# Altium footprint library STM32G4_DRV8301_hardware.PcbLib: 61 footprints (part 3 of 4)
Each footprint in its own frame and in the unit in brackets; x right, y up, seen from the top. Pads: shape width x height; smd on the part's side, far side on the other; paste and mask are expansions set on the pad; w line width, h text height; cw(c..) or ccw(c..) is an arc to the next point about the centre after c.
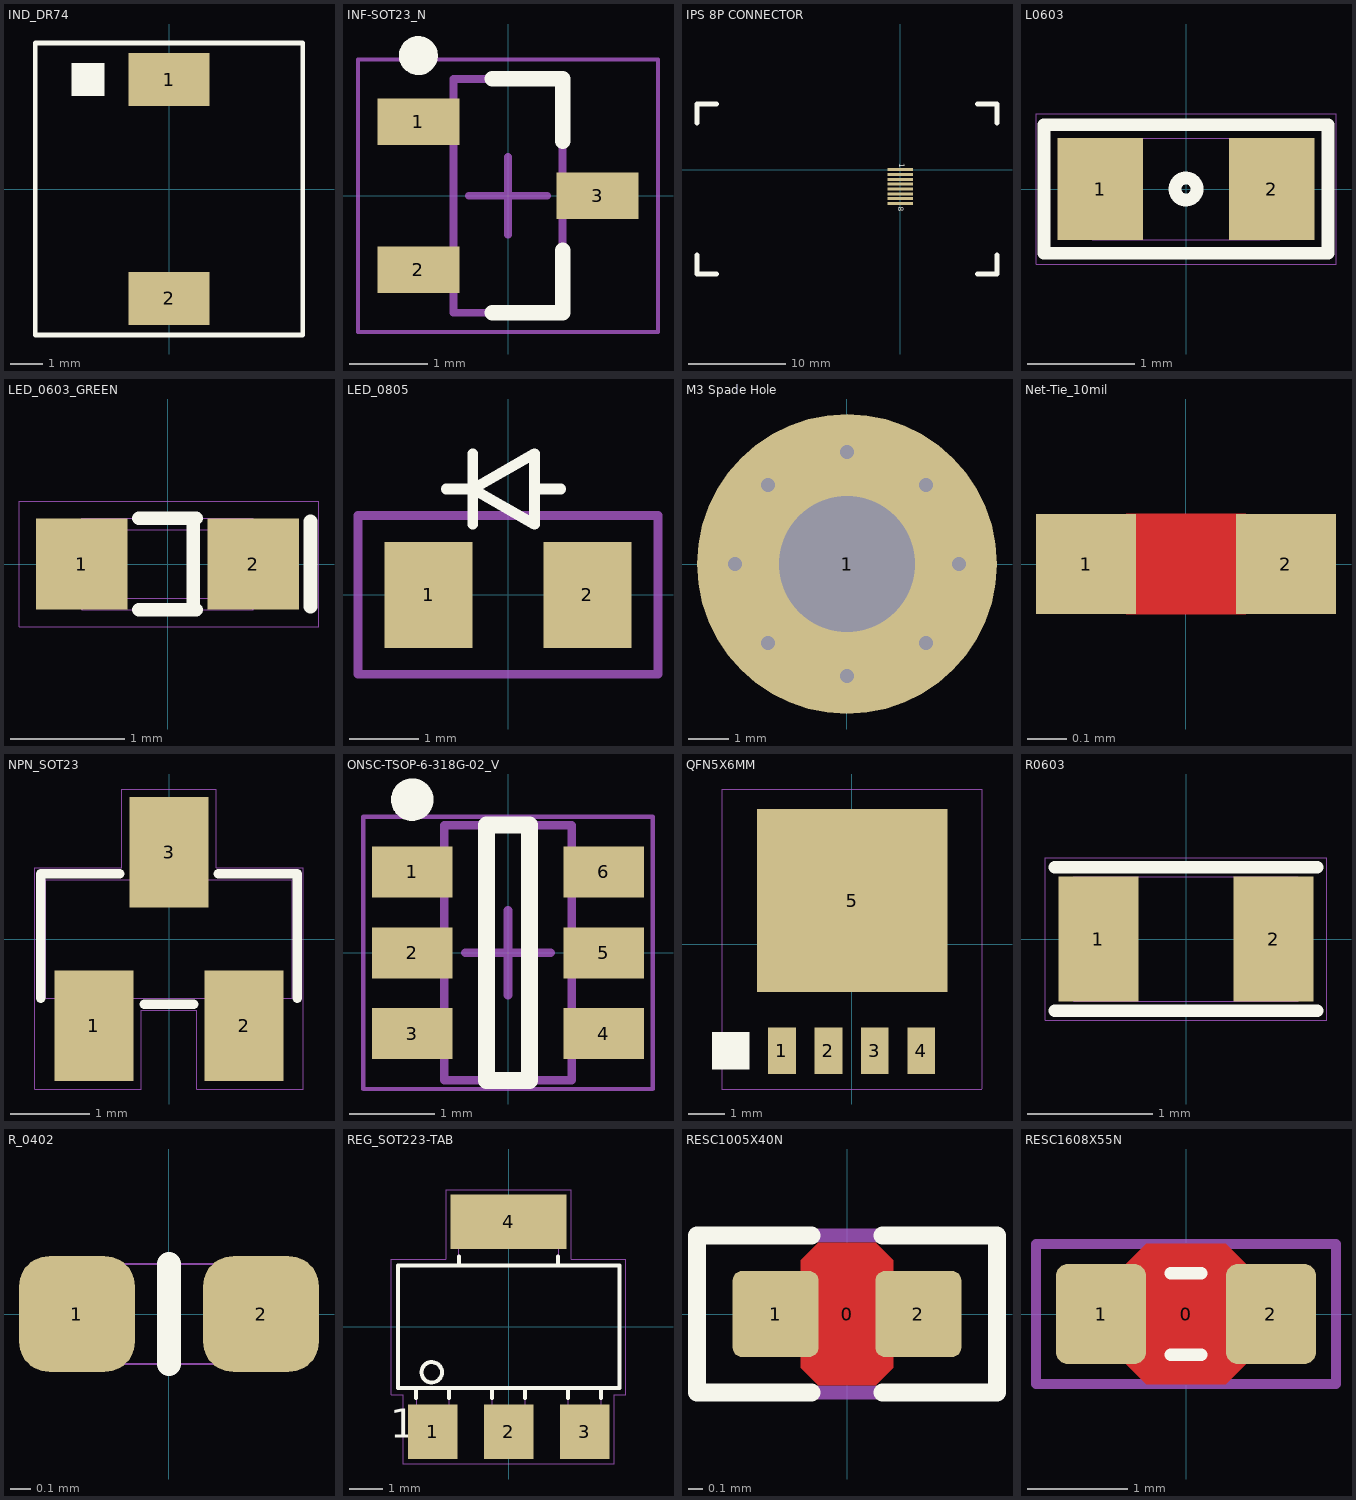
[diagram p2: the footprints below, top view; thin cyan lines are the x and y axes]

## IND_DR74 [mil]
pads (2):
  rect 100x65 smd: 1(0,135) 2(0,-135)
Top Overlay:
  region: -120,115 -80,115 -80,155 -120,155
  lines w5.91: -165,-180 -165,180 165,180 165,-180 -165,-180
Mechanical 5:
  lines w5: -165,-180 -165,180 165,180 165,-180 -165,-180
  text ".Designator" at -73,-20 h59.06
  text "*" at -137.57,131 h59.06

## INF-SOT23_N [mm]
pads (3):
  rect 1.05x0.6 smd: 1(-1.15,0.95) 2(-1.15,-0.95) 3(1.15,0)
Top Overlay:
  circle w0.25: c-1.15,1.8 r0.125
  lines w0.2: -0.2,-1.5 0.7,-1.5 0.7,-0.7 ; -0.2,1.5 0.7,1.5 0.7,0.7
Mechanical 13:
  lines w0.1: -0.7,-1.5 -0.7,1.5 0.7,1.5 0.7,-1.5 -0.7,-1.5
Mechanical 15:
  lines w0.05: -1.925,-1.75 -1.925,1.75 1.925,1.75 1.925,-1.75 -1.925,-1.75
  lines w0.1: -0.5,0 0.5,0 ; 0,-0.5 0,0.5
3D body: height 1.1, standoff 0.1, extent -0.7,-1.5 0.7,1.5

## IPS 8P CONNECTOR [mm]
pads (8):
  rect 2.6x0.3 smd: 1(0,0) 2(0,-0.5) 3(0,-1) 4(0,-1.5) 5(0,-2) 6(0,-2.5) 7(0,-3) 8(0,-3.5)
Top Overlay:
  lines w0.5: -21,-8.8 -21,-10.8 -19,-10.8 ; -21,4.8 -21,6.8 -19,6.8 ; 8,-10.8 10,-10.8 10,-8.8 ; 8,6.8 10,6.8 10,4.8
  text "8" at -0.4,-3.83 h1
  text "1" at -0.326,0.636 h1

## L0603 [mm]
pads (2):
  rect 0.8x0.95 smd mask+0.05: 1(-0.8,0) 2(0.8,0)
Top Overlay:
  circle w0.12: c0,0 r0.103
  lines w0.12: -1.325,-0.6 1.325,-0.6 1.325,0.6 -1.325,0.6 -1.325,-0.6
Mechanical 14:
  lines w0.01: -0.875,-0.475 0.875,-0.475 0.875,0.475 -0.875,0.475 -0.875,-0.475
  text "'.Designator'" at -2,-0.5 h1.5
Mechanical 16:
  lines w0.01: -1.4,-0.7 1.4,-0.7 1.4,0.7 -0.3,0.7 -1.4,0.7 -1.4,-0.7
3D body "L0603.STEP": height 0.5, standoff 0, extent -0.8,-0.4 0.8,0.4
3D body: height 0.95, standoff 0, extent -0.874,-0.474 0.874,0.474

## LED_0603_GREEN [mm]
pads (2):
  rect 0.8x0.8 smd mask+0.05: 1(-0.75,0) 2(0.75,0)
Top Overlay:
  lines w0.12: -0.25,-0.4 0.25,-0.4 0.225,-0.4 0.225,0.4 ; -0.25,0.4 0.25,0.4 ; 1.25,-0.375 1.25,0.375
Mechanical 14:
  lines w0.01: 0.55,-0.3 0.55,0.3 ; 0.6,-0.3 0.6,0.3 ; -0.75,-0.4 -0.75,0.4 ; -0.75,-0.4 0.75,-0.4 ; -0.75,-0.4 -0.65,-0.3 ; -0.75,0.4 0.75,0.4 ; -0.75,0.4 -0.65,0.3 ; -0.65,-0.3 -0.65,0.3 ; -0.65,-0.3 0.65,-0.3 ; -0.65,0.3 0.65,0.3 ; 0.65,-0.3 0.65,0.3 ; 0.65,-0.3 0.75,-0.4 ; 0.65,0.3 0.75,0.4 ; 0.75,-0.4 0.75,0.4
  text "K" at 0.8,-0.2 h1.5
  text "'.Designator'" at -2.035,-0.5 h1.5
Mechanical 16:
  lines w0.01: -1.3,-0.55 1.325,-0.55 1.325,0.55 -0.5,0.55 -1.3,0.55 -1.3,-0.55
3D body: height 0.6, standoff 0, extent -0.755,-0.405 0.755,0.405
3D body "LED_0603_GREEN.STEP": height 0.6, standoff 0, extent -0.8,-0.4 0.8,0.4

## LED_0805 [mil]
pads (2):
  rect 50x60 smd: 1(-45,0) 2(45,0)
Top Overlay:
  lines w6: -35,60 -30,60 -20,60 ; -20,40 -20,80 ; 15,60 25,60 30,60 ; -20,60 15,80 15,40 -20,60
Mechanical 5:
  lines w5: -35,60 -30,60 -20,60 ; -20,40 -20,80 ; 15,60 25,60 30,60 ; -20,60 15,80 15,40 -20,60 ; -85,-45 85,-45 85,45 -85,45 -85,-45
  text ".Designator" at -75,-20 h59.06

## M3 Spade Hole [mm]
pads (1):
  round 7.5 hole 3.4: 1(0,0)
via -1.98,-1.98 diameter 0.7 hole 0.35
via -2.8,0 diameter 0.7 hole 0.35
via -1.98,1.98 diameter 0.7 hole 0.35
via 0,-2.8 diameter 0.7 hole 0.35
via 1.98,-1.98 diameter 0.7 hole 0.35
via 0,2.8 diameter 0.7 hole 0.35
via 2.8,0 diameter 0.7 hole 0.35
via 1.98,1.98 diameter 0.7 hole 0.35

## Net-Tie_10mil [mil]
pads (2):
  rect 10x10 smd paste-5 mask-5: 1(-10,0) 2(10,0)
Top Layer:
  region: -6,5 6,5 6,-5 -6,-5

## NPN_SOT23 [mm]
pads (3):
  rect 1x1.4 smd mask+0.05: 1(-0.95,-1.1) 2(0.95,-1.1) 3(0,1.1)
Top Overlay:
  lines w0.12: -1.625,-0.75 -1.625,0.825 -0.624,0.825 ; -0.312,-0.825 0.312,-0.825 ; 0.624,0.825 1.625,0.825 1.625,-0.75
Mechanical 14:
  lines w0.01: -1.56,-0.75 -1.56,0.75 1.56,0.75 1.56,-0.75 -1.56,-0.75 ; -1.275,-1.025 -0.675,-1.025 -0.675,-0.75 -1.275,-0.75 -1.275,-1.025 ; -0.25,0.75 0.325,0.75 0.325,1.05 -0.25,1.05 -0.25,0.75 ; 0.65,-1.025 1.25,-1.025 1.25,-0.75 0.65,-0.75 0.65,-1.025
  text "'.Designator'" at -2,-0.5 h1.5
Mechanical 16:
  lines w0.01: -1.7,-1.9 -0.35,-1.9 -0.35,-0.9 0.35,-0.9 0.35,-1.9 1.7,-1.9 1.7,0.9 0.6,0.9 0.6,1.9 -0.6,1.9 -0.6,0.9 -1.7,0.9 -1.7,-1.9
3D body: height 1.1, standoff 0, extent -1.559,-0.749 1.559,0.749
3D body "SOT23-3_TO-236AB.STEP": height 1.09, standoff 0, extent -1.5,-1.25 1.5,1.25

## ONSC-TSOP-6-318G-02_V [mm]
pads (6):
  rect 0.95x0.6 smd: 1(-1.125,0.95) 2(-1.125,0) 3(-1.125,-0.95) 4(1.125,-0.95) 5(1.125,0) 6(1.125,0.95)
Top Overlay:
  circle w0.25: c-1.125,1.8 r0.125
  lines w0.2: -0.25,-1.5 -0.25,1.5 0.25,1.5 0.25,-1.5 -0.25,-1.5
Mechanical 13:
  lines w0.1: -0.75,-1.5 -0.75,1.5 0.75,1.5 0.75,-1.5 -0.75,-1.5
Mechanical 15:
  lines w0.05: -1.7,-1.6 -1.7,1.6 1.7,1.6 1.7,-1.6 -1.7,-1.6
  lines w0.1: -0.5,0 0.5,0 ; 0,-0.5 0,0.5
3D body: height 1.1, standoff 0.01, extent -0.75,-1.5 0.75,1.5

## QFN5X6MM [mil]
pads (5):
  rect 30x50 smd paste+1.5 mask+1.5: 1(-75,-115) 2(-25,-115) 3(25,-115) 4(75,-115)
  rect 204.72x196.85 smd paste+0.64 mask+0.64: 5(0.79,46.85)
Top Overlay:
  region: -110,-135 -110,-95 -150,-95 -150,-135
Mechanical 5:
  lines w1.1: -140,-156 140,-156 ; -139.37,-155.91 -139.37,166.93 140.16,166.93 140.16,-155.91
  text "Q3" at -29.12,-20.63 h59.06

## R0603 [mm]
pads (2):
  rect 0.64x1 smd mask+0.05: 1(-0.7,0) 2(0.7,0)
Top Overlay:
  lines w0.1: -1.05,-0.575 1.05,-0.575 ; -1.05,0.575 1.05,0.575
Top Paste:
  rectangle: 0.38,-0.5 1.02,0.5
  rectangle: -1.02,-0.5 -0.38,0.5
Mechanical 14:
  lines w0.01: -0.9,-0.5 0.9,-0.5 0.9,0.5 -0.9,0.5 -0.9,-0.5
  text "'.Designator'" at -2,-0.5 h1.5
Mechanical 16:
  lines w0.01: -1.125,-0.65 -1.125,0.65 1.125,0.65 1.125,-0.65 -1.125,-0.65
3D body: height 0.55, standoff 0, extent -0.905,-0.505 0.905,0.505
3D body "R0603.STEP": height 0.56, standoff 0, extent -0.85,-0.4 0.85,0.4

## R_0402 [mm]
pads (2):
  rrect52% 0.58x0.58 smd mask+0.05: 1(-0.46,0) 2(0.46,0)
Top Overlay:
  lines w0.12: 0,-0.25 0,0.25
Mechanical 14:
  lines w0.01: -0.5,-0.25 0.5,-0.25 0.5,0.25 -0.5,0.25 -0.5,-0.25
  text "1" at -0.475,-0.25 h1.5
  text "2" at 0.15,-0.25 h1.5
  text "'.Designator'" at -2.025,0.075 h1.5
3D body "RESC1005.STEP": height 0.4, standoff 0, extent -0.5,-0.25 0.5,0.25

## REG_SOT223-TAB [mm]
pads (4):
  rect 1.5x1.65 smd mask+0.05: 1(-2.3,-3.175) 2(0,-3.175) 3(2.3,-3.175)
  rect 3.5x1.65 smd mask+0.05: 4(0,3.175)
Top Overlay:
  circle w0.12: c-2.325,-1.375 r0.309
  lines w0.12: -2.8,-2.15 -2.8,-1.85 -1.8,-1.85 -1.8,-2.15 ; -1.5,2.125 -1.5,1.85 1.5,1.85 1.5,2.125 ; -0.5,-2.15 -0.5,-1.85 0.5,-1.85 0.5,-2.15 ; 1.8,-2.15 1.8,-1.85 2.8,-1.85 2.8,-2.15 ; -3.35,-1.85 -3.35,1.85 3.35,1.85 3.35,-1.85 -3.35,-1.85
  text "1" at -3.585,-3.645 h1.5
Mechanical 14:
  circle w0.01: c-2.325,-1.375 r0.285
  lines w0.01: -3.35,-1.85 -3.35,1.85 3.35,1.85 3.35,-1.85 -3.35,-1.85 ; -2.8,-3.65 -1.8,-3.65 -1.8,-1.85 -2.8,-1.85 -2.8,-3.65 ; -1.5,1.85 1.5,1.85 1.5,3.65 -1.5,3.65 -1.5,1.85 ; -0.5,-3.65 0.5,-3.65 0.5,-1.85 -0.5,-1.85 -0.5,-3.65 ; 1.8,-3.65 2.8,-3.65 2.8,-1.85 1.8,-1.85 1.8,-3.65
  text "'.Designator'" at -2,-0.5 h1.5
  text "3" at 1.95,-3.4 h1.5
  text "2" at -0.35,-3.375 h1.5
  text "1" at -2.5,-3.35 h1.5
  text "4" at -0.325,2.375 h1.5
Mechanical 16:
  lines w0.01: -3.55,-2.05 -3.55,2.05 -1.9,2.05 -1.9,4.15 1.9,4.15 1.9,2.05 3.55,2.05 3.55,-2.05 3.2,-2.05 3.2,-4.15 -3.2,-4.15 -3.2,-2.05 -3.55,-2.05
3D body "SOT223.STEP": height 1.68, standoff 0, extent -3.25,-3.48 3.25,3.48
3D body: height 1.8, standoff 0, extent -3.349,-1.849 3.349,1.849

## RESC1005X40N [mm]
pads (3):
  round 0.2 on Mech15: 0(0,0)
  rrect20% 0.6x0.6 smd: 1(-0.5,0) 2(0.5,0)
Top Layer:
  pour cut-out: -0.325,0.375 -0.2,0.5 0.2,0.5 0.325,0.375 0.325,-0.375 0.2,-0.5 -0.2,-0.5 -0.325,-0.375
Top Overlay:
  lines w0.127: -0.25,-0.55 -1.05,-0.55 -1.05,0.55 -0.25,0.55 ; 0.25,-0.55 1.05,-0.55 1.05,0.55 0.25,0.55
Mechanical 13:
  lines w0.05: 0.225,-0.274 -0.225,-0.274 0.225,-0.274 ; -0.525,-0.275 -0.225,-0.275 -0.225,0.275 -0.525,0.275 -0.525,-0.275 ; -0.225,0.274 0.225,0.274 -0.225,0.274 ; 0.225,-0.275 0.225,0.275 0.525,0.275 0.525,-0.275 0.225,-0.275
Mechanical 15:
  lines w0.1: -1.05,-0.55 1.05,-0.55 1.05,0.55 -1.05,0.55 -1.05,-0.55
3D body "RES 0402 (1005 metric).STEP": height 0.4, standoff 0, extent -0.525,-0.275 0.525,0.275

## RESC1608X55N [mm]
pads (3):
  round 0.254 on Mech15: 0(0,0)
  rrect25% 0.9x1 smd: 1(-0.85,0) 2(0.85,0)
Top Layer:
  pour cut-out: -0.6,0.5 -0.4,0.7 0.4,0.7 0.6,0.5 0.6,-0.5 0.4,-0.7 -0.4,-0.7 -0.6,-0.5
Top Overlay:
  lines w0.127: -0.152,-0.406 0.152,-0.406 ; -0.152,0.406 0.152,0.406
Mechanical 13:
  lines w0.05: -0.875,-0.475 -0.875,0.475 -0.475,0.475 -0.475,-0.475 -0.875,-0.475 ; -0.475,-0.474 0.475,-0.474 -0.475,-0.474 ; -0.475,0.474 0.475,0.474 -0.475,0.474 ; 0.475,-0.475 0.875,-0.475 0.875,0.475 0.475,0.475 0.475,-0.475
Mechanical 15:
  lines w0.1: -1.5,-0.7 1.5,-0.7 1.5,0.7 -1.5,0.7 -1.5,-0.7
3D body "RES 0603 (1608 metric).STEP": height 0.54, standoff -0.01, extent -0.875,-0.475 0.875,0.475